# EAGLE library part RIA182-13 (library con-ria182)
Gewinkelter Wannenstecker 13-polig Rastermaß: 3,5mm Lötstift / Steckerstift: 1x1mm Bohrung: 1,5mm Bemessungsstrom: 5A Nennquerschnitt Stecker: 1,5qmm eindrähtig / 1qmm feinstdrähtig
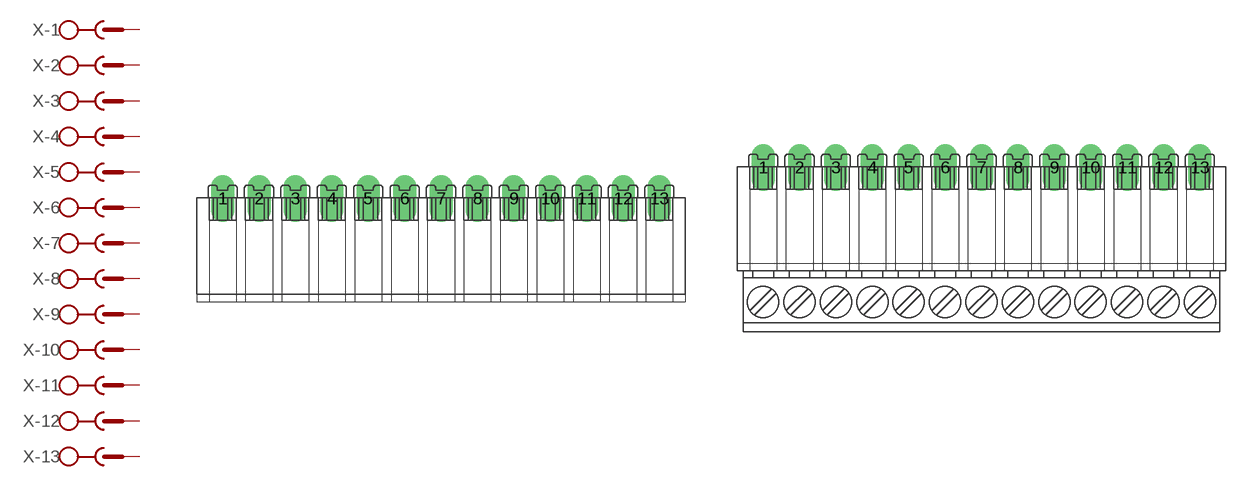
[diagram p7: symbol with the pads of RIA182-13; footprints RIA182-13, RIA182-169-13]

Designator prefix X; gates -1=SK -2=SK -3=SK -4=SK -5=SK -6=SK -7=SK -8=SK -9=SK -10=SK -11=SK -12=SK -13=SK

## RIA182-13  [RIA182-13]
1  -1:SK  pas
2  -2:SK  pas
3  -3:SK  pas
4  -4:SK  pas
5  -5:SK  pas
6  -6:SK  pas
7  -7:SK  pas
8  -8:SK  pas
9  -9:SK  pas
10  -10:SK  pas
11  -11:SK  pas
12  -12:SK  pas
13  -13:SK  pas

## RIA182-13-169  [RIA182-169-13]
Pads as for RIA182-13

## Footprint RIA182-13 (pad centres in mm)
drill 1.5 long: 1 -21,0; 2 -17.5,0; 3 -14,0; 4 -10.5,0; 5 -7,0; 6 -3.5,0; 7 0,0; 8 3.5,0; 9 7,0; 10 10.5,0; 11 14,0; 12 17.5,0; 13 21,0

## Footprint RIA182-169-13 (pad centres in mm)
mit Stecker RIA 169
drill 1.5 long: 1 -21,0; 2 -17.5,0; 3 -14,0; 4 -10.5,0; 5 -7,0; 6 -3.5,0; 7 0,0; 8 3.5,0; 9 7,0; 10 10.5,0; 11 14,0; 12 17.5,0; 13 21,0